# EAGLE library part DW01A (library semiconductors)
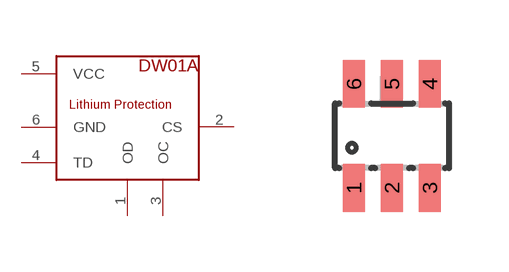
[diagram p1: symbol with the pads of SOT23-6; footprint SOT23-6]

Designator prefix -

## DW01A  [SOT23-6]
1  OD
2  CS
3  OC
4  TD
5  VCC
6  GND

## Footprint SOT23-6 (pad centres in mm)
smd 0.55 x 1.2: 1 -0.95,-1.3; 2 0,-1.3; 3 0.95,-1.3; 4 0.95,1.3; 5 0,1.3; 6 -0.95,1.3